# Altium footprint library ArduinoMicro.PcbLib: 1 footprints
Each footprint in its own frame and in the unit in brackets; x right, y up, seen from the top. Pads: shape width x height; smd on the part's side, far side on the other; paste and mask are expansions set on the pad; w line width, h text height; cw(c..) or ccw(c..) is an arc to the next point about the centre after c.
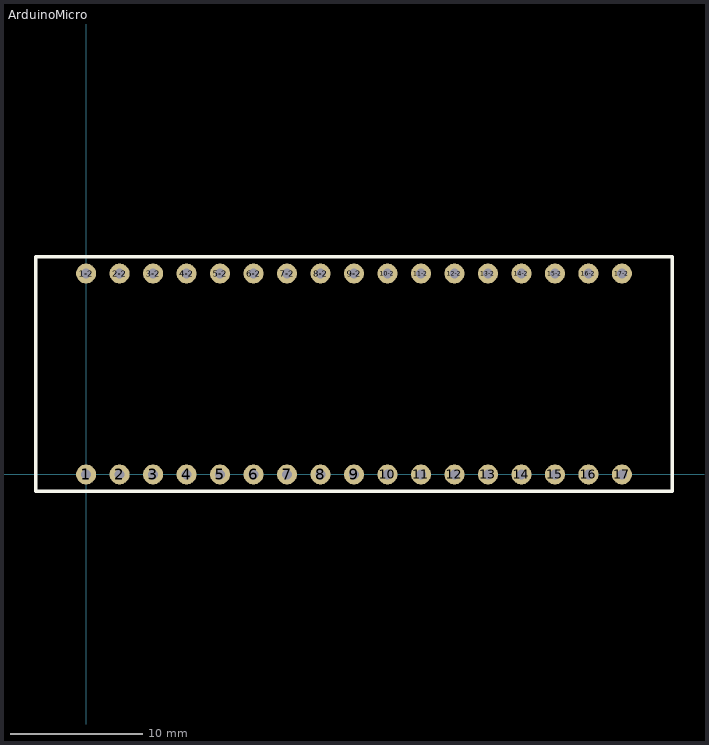
[diagram p0: the footprint, top view; thin cyan lines are the x and y axes]

## ArduinoMicro [mil]
pads (34):
  round 60 hole 30: 1(0,0) 1-2(0,600) 2(100,0) 2-2(100,600) 3(200,0) 3-2(200,600) 4(300,0) 4-2(300,600) 5(400,0) 5-2(400,600) 6(500,0) 6-2(500,600) 7(600,0) 7-2(600,600) 8(700,0) 8-2(700,600) 9(800,0) 9-2(800,600) 10(900,0) 10-2(900,600) 11(1000,0) 11-2(1000,600) 12(1100,0) 12-2(1100,600) 13(1200,0) 13-2(1200,600) 14(1300,0) 14-2(1300,600) 15(1400,0) 15-2(1400,600) 16(1500,0) 16-2(1500,600) 17(1600,0) 17-2(1600,600)
Top Overlay:
  lines w10: -150,-50 -150,650 1750,650 1750,-50 -150,-50